# Altium footprint library MGMEZZ04.PcbLib: 62 footprints (part 3 of 4)
Each footprint in its own frame and in the unit in brackets; x right, y up, seen from the top. Pads: shape width x height; smd on the part's side, far side on the other; paste and mask are expansions set on the pad; w line width, h text height; cw(c..) or ccw(c..) is an arc to the next point about the centre after c.
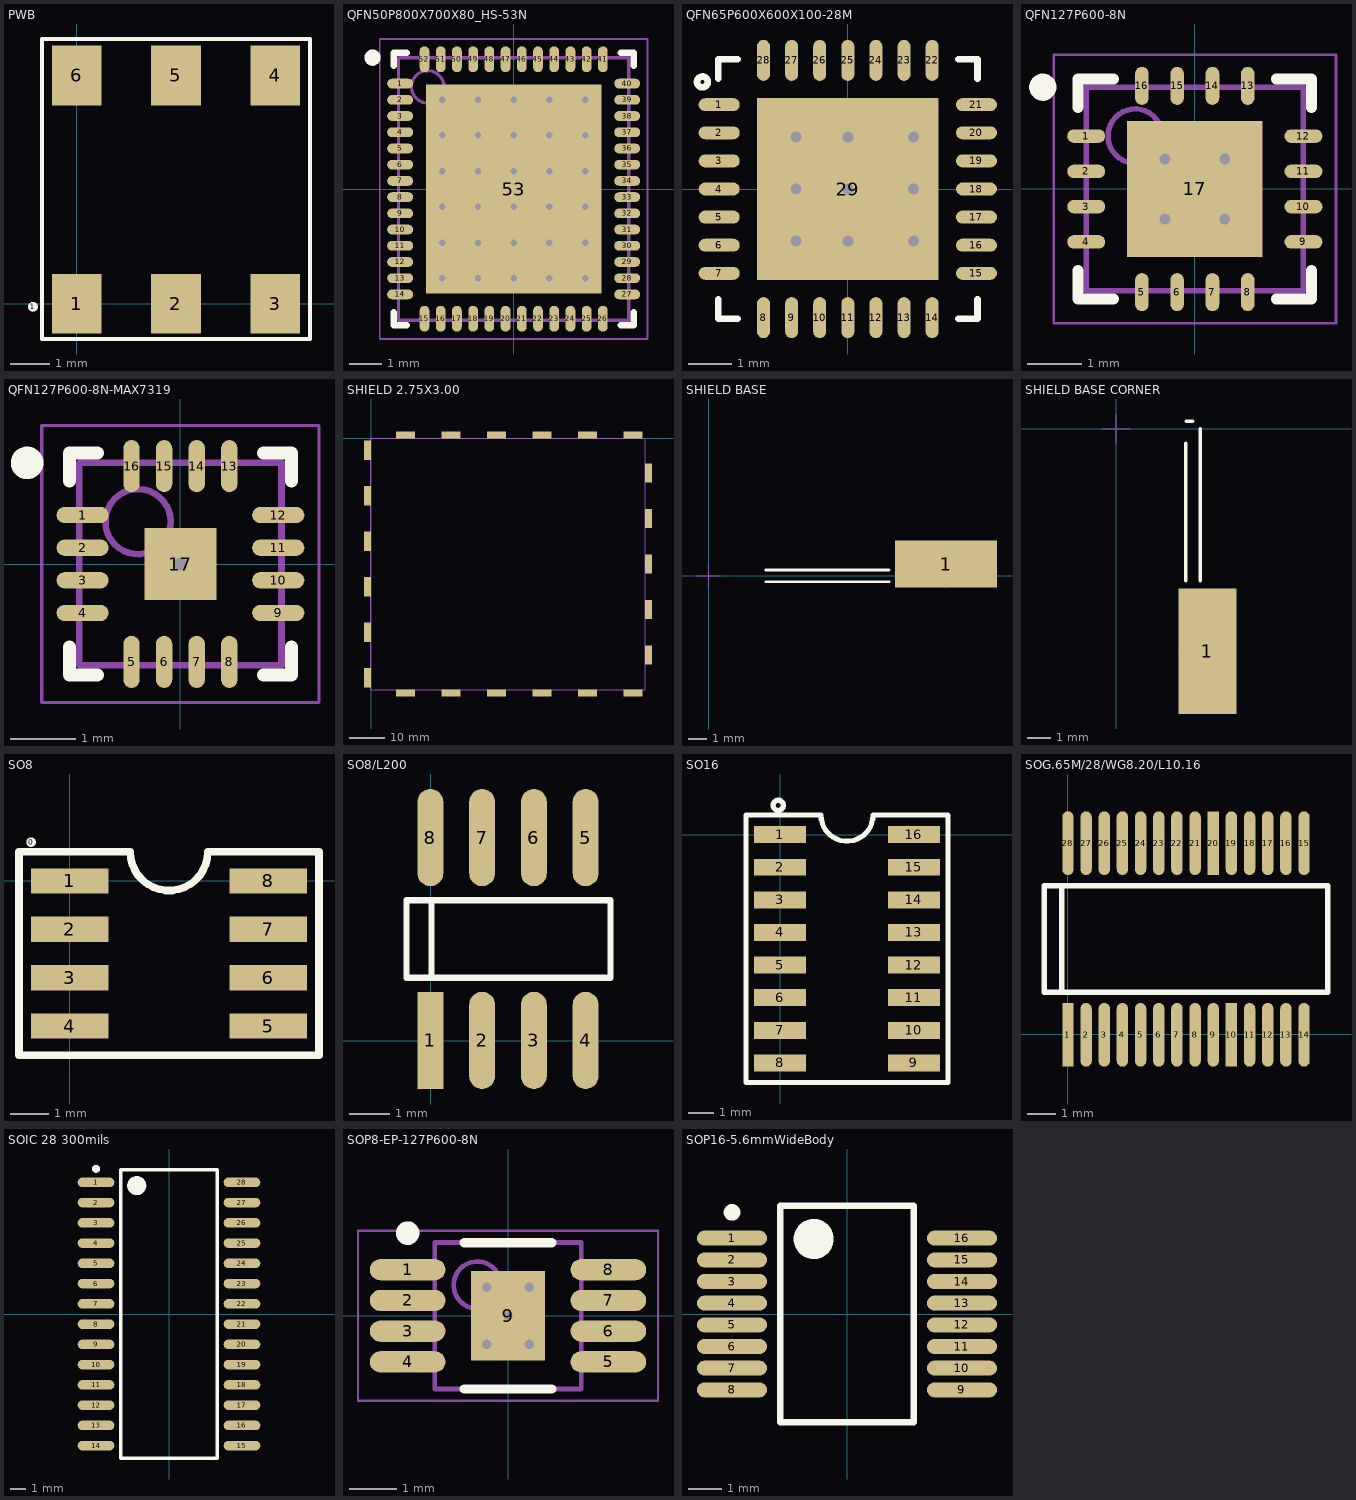
[diagram p2: the footprints below, top view; thin cyan lines are the x and y axes]

## PCBComponent_1 - duplicate [mil]

## PWB [mil] "Transformer - Coilcraft"
height 175.2
pads (7):
  round 10 on Top Overlay: 1(-44,-3)
  rect 50x60 smd: 1(0,0) 2(100,0) 3(200,0) 4(200,230) 5(100,230) 6(0,230)
Top Overlay:
  lines w4: -35,-35.43 -35,266.73 235,266.73 235,-35.43 -35,-35.43

## QFN50P800X700X80_HS-53N [mm] "QFN, 52-Leads, Body 8.00x7.00mm, Pitch 0.50mm, Thermal Pad 6.45x5.41mm, IPC Medium Density"
height 0.8
pads (53):
  oval 0.8x0.3 smd: 1(-3.5,3.25) 2(-3.5,2.75) 3(-3.5,2.25) 4(-3.5,1.75) 5(-3.5,1.25) 6(-3.5,0.75) 7(-3.5,0.25) 8(-3.5,-0.25) 9(-3.5,-0.75) 10(-3.5,-1.25) 11(-3.5,-1.75) 12(-3.5,-2.25) 13(-3.5,-2.75) 14(-3.5,-3.25) 27(3.5,-3.25) 28(3.5,-2.75) 29(3.5,-2.25) 30(3.5,-1.75) 31(3.5,-1.25) 32(3.5,-0.75) 33(3.5,-0.25) 34(3.5,0.25) 35(3.5,0.75) 36(3.5,1.25) 37(3.5,1.75) 38(3.5,2.25) 39(3.5,2.75) 40(3.5,3.25)
  oval 0.3x0.8 smd: 15(-2.75,-4) 16(-2.25,-4) 17(-1.75,-4) 18(-1.25,-4) 19(-0.75,-4) 20(-0.25,-4) 21(0.25,-4) 22(0.75,-4) 23(1.25,-4) 24(1.75,-4) 25(2.25,-4) 26(2.75,-4) 41(2.75,4) 42(2.25,4) 43(1.75,4) 44(1.25,4) 45(0.75,4) 46(0.25,4) 47(-0.25,4) 48(-0.75,4) 49(-1.25,4) 50(-1.75,4) 51(-2.25,4) 52(-2.75,4)
  rect 5.41x6.45 smd: 53(0,0)
via 2.2,-2.75 diameter 0.5 hole 0.2
via 1.1,-2.75 diameter 0.5 hole 0.2
via 0,-2.75 diameter 0.5 hole 0.2
via -1.1,-2.75 diameter 0.5 hole 0.2
via -2.2,-2.75 diameter 0.5 hole 0.2
via 2.2,-1.65 diameter 0.5 hole 0.2
via 1.1,-1.65 diameter 0.5 hole 0.2
via 0,-1.65 diameter 0.5 hole 0.2
via -1.1,-1.65 diameter 0.5 hole 0.2
via -2.2,-1.65 diameter 0.5 hole 0.2
via 2.2,-0.55 diameter 0.5 hole 0.2
via 1.1,-0.55 diameter 0.5 hole 0.2
via 0,-0.55 diameter 0.5 hole 0.2
via -1.1,-0.55 diameter 0.5 hole 0.2
via -2.2,-0.55 diameter 0.5 hole 0.2
via 2.2,0.55 diameter 0.5 hole 0.2
via 1.1,0.55 diameter 0.5 hole 0.2
via 0,0.55 diameter 0.5 hole 0.2
via -1.1,0.55 diameter 0.5 hole 0.2
via -2.2,0.55 diameter 0.5 hole 0.2
via 2.2,1.65 diameter 0.5 hole 0.2
via 1.1,1.65 diameter 0.5 hole 0.2
via 0,1.65 diameter 0.5 hole 0.2
via -1.1,1.65 diameter 0.5 hole 0.2
via -2.2,1.65 diameter 0.5 hole 0.2
via 2.2,2.75 diameter 0.5 hole 0.2
via 1.1,2.75 diameter 0.5 hole 0.2
via 0,2.75 diameter 0.5 hole 0.2
via -1.1,2.75 diameter 0.5 hole 0.2
via -2.2,2.75 diameter 0.5 hole 0.2
Top Overlay:
  circle w0.25: c-4.35,4.05 r0.125
  lines w0.2: -3.7,-3.8 -3.7,-4.2 -3.3,-4.2 ; -3.7,3.8 -3.7,4.2 -3.3,4.2 ; 3.3,-4.2 3.7,-4.2 3.7,-3.8 ; 3.3,4.2 3.7,4.2 3.7,3.8
Mechanical 13:
  circle w0.1: c-2.65,3.15 r0.5
  lines w0.1: -3.55,-4.05 3.55,-4.05 3.55,4.05 -3.55,4.05 -3.55,-4.05
Mechanical 15:
  lines w0.05: -4.125,-4.625 4.125,-4.625 4.125,4.625 -4.125,4.625 -4.125,-4.625
  lines w0.1: -0.5,0 0.5,0 ; 0,-0.5 0,0.5
3D body: height 0.8, standoff 0.05, extent -3.55,-4.05 3.55,4.05

## QFN65P600X600X100-28M [mm]
pads (29):
  oval 0.95x0.3 smd: 1(-2.975,1.95) 2(-2.975,1.3) 3(-2.975,0.65) 4(-2.975,0) 5(-2.975,-0.65) 6(-2.975,-1.3) 7(-2.975,-1.95) 15(2.975,-1.95) 16(2.975,-1.3) 17(2.975,-0.65) 18(2.975,0) 19(2.975,0.65) 20(2.975,1.3) 21(2.975,1.95)
  oval 0.3x0.95 smd: 8(-1.95,-2.975) 9(-1.3,-2.975) 10(-0.65,-2.975) 11(0,-2.975) 12(0.65,-2.975) 13(1.3,-2.975) 14(1.95,-2.975) 22(1.95,2.975) 23(1.3,2.975) 24(0.65,2.975) 25(0,2.975) 26(-0.65,2.975) 27(-1.3,2.975) 28(-1.95,2.975)
  rect 4.2x4.2 smd: 29(0,0)
via 1.524,-1.206 diameter 0.508 hole 0.254
via 0,-1.2 diameter 0.508 hole 0.254
via -1.2,-1.2 diameter 0.508 hole 0.254
via 1.524,0 diameter 0.508 hole 0.254
via 0,0 diameter 0.508 hole 0.254
via -1.2,0 diameter 0.508 hole 0.254
via 1.524,1.206 diameter 0.508 hole 0.254
via 0,1.2 diameter 0.508 hole 0.254
via -1.2,1.2 diameter 0.508 hole 0.254
Top Overlay:
  circle w0.152: c-3.364,2.476 r0.125
  lines w0.152: -3,-2.55 -3,-3 -2.55,-3 ; -3,2.55 -3,3 -2.55,3 ; 2.55,-3 3,-3 3,-2.55 ; 2.55,3 3,3 3,2.55

## QFN127P600-8N [mm] "16-VQFN Exposed Pad for ADG1612"
height 1
pads (17):
  oval 0.7x0.25 smd: 1(-2,0.975) 2(-2,0.325) 3(-2,-0.325) 4(-2,-0.975) 9(2,-0.975) 10(2,-0.325) 11(2,0.325) 12(2,0.975)
  oval 0.25x0.7 smd: 5(-0.975,-1.9) 6(-0.325,-1.9) 7(0.325,-1.9) 8(0.975,-1.9) 13(0.975,1.9) 14(0.325,1.9) 15(-0.325,1.9) 16(-0.975,1.9)
  rect 2.5x2.5 smd: 17(0,0)
via -0.55,0.55 diameter 0.5 hole 0.2
via 0.55,0.55 diameter 0.5 hole 0.2
via -0.55,-0.55 diameter 0.5 hole 0.2
via 0.55,-0.55 diameter 0.5 hole 0.2
Top Overlay:
  circle w0.25: c-2.8,1.875 r0.125
  lines w0.2: -2.15,-1.5 -2.15,-2.025 -1.5,-2.025 ; -2.15,1.5 -2.15,2.025 -1.5,2.025 ; 1.5,-2.025 2.15,-2.025 2.15,-1.5 ; 1.5,2.025 2.15,2.025 2.15,1.5
Mechanical 13:
  circle w0.1: c-1.1,0.975 r0.5
  lines w0.1: -2,-1.875 -2,1.875 2,1.875 2,-1.875 -2,-1.875
Mechanical 15:
  lines w0.05: -2.6,-2.475 -2.6,2.475 2.6,2.475 2.6,-2.475 -2.6,-2.475
  lines w0.1: -0.5,0 0.5,0 ; 0,-0.5 0,0.5
3D body: height 1, standoff 0.05, extent -2,-1.875 2,1.875

## QFN127P600-8N-MAX7319 [mm] "Drawn for MAX7319ATE+"
height 0.8
pads (17):
  oval 0.8x0.25 smd: 1(-1.5,0.75) 2(-1.5,0.25) 3(-1.5,-0.25) 4(-1.5,-0.75) 9(1.5,-0.75) 10(1.5,-0.25) 11(1.5,0.25) 12(1.5,0.75)
  oval 0.25x0.8 smd: 5(-0.75,-1.5) 6(-0.25,-1.5) 7(0.25,-1.5) 8(0.75,-1.5) 13(0.75,1.5) 14(0.25,1.5) 15(-0.25,1.5) 16(-0.75,1.5)
  rect 1.1x1.1 smd: 17(0,0)
via 0,0 diameter 0.5 hole 0.2
Top Overlay:
  circle w0.25: c-2.35,1.55 r0.125
  lines w0.2: -1.7,-1.275 -1.7,-1.7 -1.275,-1.7 ; -1.7,1.275 -1.7,1.7 -1.275,1.7 ; 1.275,-1.7 1.7,-1.7 1.7,-1.275 ; 1.275,1.7 1.7,1.7 1.7,1.275
Mechanical 13:
  circle w0.1: c-0.65,0.65 r0.5
  lines w0.1: -1.55,-1.55 1.55,-1.55 1.55,1.55 -1.55,1.55 -1.55,-1.55
Mechanical 15:
  lines w0.05: -2.125,-2.125 2.125,-2.125 2.125,2.125 -2.125,2.125 -2.125,-2.125
  lines w0.1: -0.5,0 0.5,0 ; 0,-0.5 0,0.5
3D body: height 0.8, standoff 0.05, extent -1.55,-1.55 1.55,1.55

## SHIELD 2.75X3.00 [mil]
pads (23):
  rect 210x75 smd: 1(380.2,37) 2(880.2,37) 3(1380.2,37) 4(1880.2,37) 5(2380.2,37) 6(2880.2,37) 12(2880.2,-2800) 13(2380.2,-2800) 14(1880.2,-2800) 15(1380.2,-2800) 16(880.2,-2800) 17(380.2,-2800)
  rect 75x210 smd: 7(3048.7,-381.5) 8(3048.7,-881.5) 9(3048.7,-1381.5) 10(3048.7,-1881.5) 11(3048.7,-2381.5) 18(-38.3,-2631.5) 19(-38.3,-2131.5) 20(-38.3,-1631.5) 21(-38.3,-1131.5) 22(-38.3,-631.5) 23(-38.3,-131.5)
Mechanical 2:
  lines w2: -0.8,-2761.5 -0.8,-0.5 3011.2,-0.5 3011.2,-2761.5 -0.8,-2761.5

## SHIELD BASE [mil]
pads (1):
  rect 215x100 smd: 1(500,25)
Top Overlay:
  lines w6: 120,-12.5 380,-12.5 ; 120,12.5 380,12.5
Mechanical 3:
  lines w2: -25,0 0,0 ; 0,-25 0,0 ; 0,25 0,0 ; 25,0 0,0 ; 475,0 500,0 ; 500,-25 500,0 ; 500,25 500,0 ; 525,0 500,0

## SHIELD BASE CORNER [mil]
pads (1):
  rect 100x215 smd: 1(156,-381)
Top Overlay:
  lines w6: 118.5,-260 118.5,-25 ; 120,12.5 131,12.5 ; 143.5,-260 143.5,0
Mechanical 3:
  lines w2: -25,0 0,0 ; 0,-25 0,0 ; 0,25 0,0 ; 25,0 0,0 ; 106,-381 131,-381 ; 131,-406 131,-381 ; 131,-356 131,-381 ; 156,-381 131,-381

## SO8 [mil]
pads (9):
  round 10 on Top Overlay: 0(-40,40)
  rect 80x26 smd: 1(0,0) 2(0,-50) 3(0,-100) 4(0,-150) 5(205,-150) 6(205,-100) 7(205,-50) 8(205,0)
Top Overlay:
  lines w7.87: -52.5,-180 257.5,-180 257.5,30 142.5,30 cw(c102.5,30) 62.5,30 -52.5,30 -52.5,-180

## SO8/L200 [mil]
pads (8):
  rect 25x94 smd: 1(-0.4,0.18)
  oval 25x94 smd: 2(49.6,0.18) 3(99.6,0.18) 4(149.6,0.18) 5(149.6,196.18) 6(99.6,196.18) 7(49.6,196.18) 8(-0.4,196.18)
Top Overlay:
  lines w6: 0.6,60.68 0.6,135.68 ; -23.4,60.68 -23.4,135.68 173.6,135.68 173.6,60.68 -23.4,60.68

## SO16 [mil]
pads (16):
  rect 80x26 smd: 1(0,0) 2(0,-50) 3(0,-100) 4(0,-150) 5(0,-200) 6(0,-250) 7(0,-300) 8(0,-350) 9(205,-350) 10(205,-300) 11(205,-250) 12(205,-200) 13(205,-150) 14(205,-100) 15(205,-50) 16(205,0)
Top Overlay:
  circle w7.87: c-2.87,45 r7.87
  lines w7.87: -52.5,-380 -52.5,30 62.5,30 ccw(c102.5,30) 142.5,30 257.5,30 257.5,-380 -52.5,-380

## SOG.65M/28/WG8.20/L10.16 [mil]
pads (28):
  rect 16x90 smd: 1(0,-0.42) 10(230.4,-0.42) 20(204.8,269.58)
  oval 16x90 smd: 2(25.6,-0.42) 3(51.2,-0.42) 4(76.8,-0.42) 5(102.4,-0.42) 6(128,-0.42) 7(153.6,-0.42) 8(179.2,-0.42) 9(204.8,-0.42) 11(256,-0.42) 12(281.6,-0.42) 13(307.2,-0.42) 14(332.8,-0.42) 15(332.8,269.58) 16(307.2,269.58) 17(281.6,269.58) 18(256,269.58) 19(230.4,269.58) 21(179.2,269.58) 22(153.6,269.58) 23(128,269.58) 24(102.4,269.58) 25(76.8,269.58) 26(51.2,269.58) 27(25.6,269.58) 28(0,269.58)
Top Overlay:
  lines w8: -8.6,59.58 -8.6,209.58 ; -33.6,59.58 366.4,59.58 366.4,209.58 -33.6,209.58 -33.6,59.58

## SOIC 28 300mils [mm] "SOIC, 28-Leads, Body 18.1x7.6mm (max), Pitch 1.27mm, IPC Medium Density"
height 2.65
pads (28):
  oval 2.3x0.6 smd: 1(-4.575,8.255) 2(-4.575,6.985) 3(-4.575,5.715) 4(-4.575,4.445) 5(-4.575,3.175) 6(-4.575,1.905) 7(-4.575,0.635) 8(-4.575,-0.635) 9(-4.575,-1.905) 10(-4.575,-3.175) 11(-4.575,-4.445) 12(-4.575,-5.715) 13(-4.575,-6.985) 14(-4.575,-8.255) 15(4.575,-8.255) 16(4.575,-6.985) 17(4.575,-5.715) 18(4.575,-4.445) 19(4.575,-3.175) 20(4.575,-1.905) 21(4.575,-0.635) 22(4.575,0.635) 23(4.575,1.905) 24(4.575,3.175) 25(4.575,4.445) 26(4.575,5.715) 27(4.575,6.985) 28(4.575,8.255)
Top Overlay:
  circle w0.25: c-4.575,9.105 r0.125
  circle w0.6: c-2.025,8.05 r0.3
  lines w0.2: -3.025,-9.05 -3.025,9.05 3.025,9.05 3.025,-9.05 -3.025,-9.05
3D body: height 2.65, standoff 0.1, extent -3.8,-9.05 3.8,9.05

## SOP8-EP-127P600-8N [mm] "SOP8 package for THS4131IDGNR"
height 1.1
pads (9):
  oval 1.6x0.45 smd: 1(-2.125,0.975) 2(-2.125,0.325) 3(-2.125,-0.325) 4(-2.125,-0.975) 5(2.125,-0.975) 6(2.125,-0.325) 7(2.125,0.325) 8(2.125,0.975)
  rect 1.57x1.89 smd: 9(0,0)
via -0.45,0.6 diameter 0.5 hole 0.2
via 0.45,-0.6 diameter 0.5 hole 0.2
via -0.45,-0.6 diameter 0.5 hole 0.2
via 0,0 diameter 0.5 hole 0.2
via 0.45,0.6 diameter 0.5 hole 0.2
Top Overlay:
  circle w0.25: c-2.125,1.75 r0.125
  lines w0.2: -0.925,-1.55 0.925,-1.55 ; -0.925,1.55 0.925,1.55
Mechanical 13:
  circle w0.1: c-0.65,0.65 r0.5
  lines w0.1: -1.55,-1.55 1.55,-1.55 1.55,1.55 -1.55,1.55 -1.55,-1.55
Mechanical 15:
  lines w0.05: -3.175,-1.8 3.175,-1.8 3.175,1.8 -3.175,1.8 -3.175,-1.8
  lines w0.1: -0.5,0 0.5,0 ; 0,-0.5 0,0.5
3D body: height 1.1, standoff 0.15, extent -1.55,-1.55 1.55,1.55

## SOP16-5.6mmWideBody [mm]
height 2
pads (16):
  oval 2.1x0.45 smd: 1(-3.45,2.275) 2(-3.45,1.625) 3(-3.45,0.975) 4(-3.45,0.325) 5(-3.45,-0.325) 6(-3.45,-0.975) 7(-3.45,-1.625) 8(-3.45,-2.275) 9(3.45,-2.275) 10(3.45,-1.625) 11(3.45,-0.975) 12(3.45,-0.325) 13(3.45,0.325) 14(3.45,0.975) 15(3.45,1.625) 16(3.45,2.275)
Top Overlay:
  circle w0.6: c-1,2.25 r0.3
  circle w0.25: c-3.45,3.05 r0.125
  lines w0.2: -2,-3.25 2,-3.25 2,3.25 -2,3.25 -2,-3.25
3D body: height 2, standoff 0.05, extent -2.8,-3.25 2.8,3.25